# EAGLE library part 15-97-7084 (library molex)
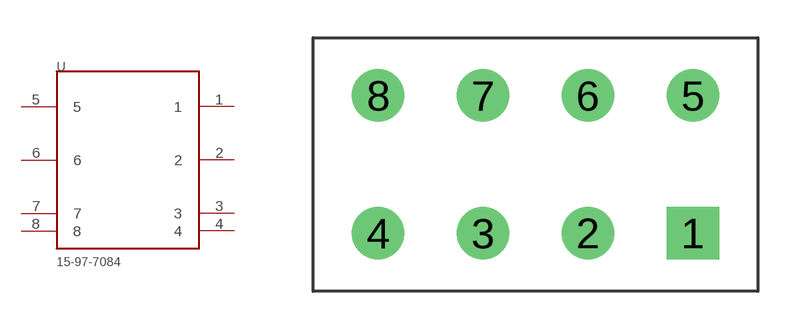
[diagram p90: symbol with the pads of 15-97-7084; footprint 15-97-7084]

Designator prefix -

## 15-97-7084  [15-97-7084]
1  1
2  2
3  3
4  4
5  5
6  6
7  7
8  8

## Footprint 15-97-7084 (pad centres in mm)
drill 1.397 square: 1 6.287,-2.756
drill 1.397: 2 2.095,-2.756; 3 -2.095,-2.756; 4 -6.287,-2.756; 5 6.287,2.756; 6 2.095,2.756; 7 -2.095,2.756; 8 -6.287,2.756